# Altium integrated library Free Documents.IntLib: 2 symbols
Pins are listed as number, name and electrical type; pins without a type are passive.

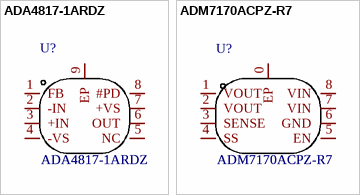
[diagram p0: symbols ADA4817-1ARDZ to ADM7170ACPZ-R7]

## ADA4817-1ARDZ
designator U?
运放类型:Voltage Feedback;放大器组数:1;增益带宽积（GBP）:410MHz;压摆率（SR）:870 V/us;电源电压:5V ~ 10V, ±2.5V ~ 5V;各通道供电电流:-;; Manufacturer: ADI(亚德诺)/LINEAR; Add into BOM: yes; Number of Circuits: 1; Gain Bandwidth Product（GBP）: 410MHz; Symbol: ADA4817-1ARDZ; Device: ADA4817-1ARDZ; LCSC Part Name: ADA4817-1ARDZ; Supplier Part: C208248; Manufacturer Part: ADA4817-1ARDZ; Supplier Footprint: SOIC-8_EP_150mil; JLCPCB Part Class: Extended Part; Datasheet: https://atta.szlcsc.com/upload/public/pdf/source/20180424/C208248_B6C816B2B54D5C6B6DFEDEB97F35E3C5.pdf; Supplier: LCSC; Convert to PCB: yes; Amplifier Type: Voltage Feedback; Slew Rate（SR）: 870 V/us; Output Type: -; Supply Voltage（Single）: 5V ~ 10V, ±2.5V ~ 5V; Iq per channel (Typ): -; Operating Temperature: -40°C ~ 105°C; Name: ADA4817-1ARDZ
footprint SOIC-8_L4.9-W3.9-P1.27-LS6.0-BL-EP2.3
3D model SOIC-8_L4.9-W3.9-H1.7-LS6.0-P1.27
pins: 1 FB, 2 -IN, 3 +IN, 4 -VS, 5 NC, 6 OUT, 7 +VS, 8 #PD, 9 EP

## ADM7170ACPZ-R7
designator U?
Manufacturer: ADI(亚德诺)/LINEAR(凌特); Add into BOM: yes; Symbol: ADM7170ACPZ-R7; Device: ADM7170ACPZ-R7; LCSC Part Name: ADM7170ACPZ-R7; Supplier Part: C658475; Manufacturer Part: ADM7170ACPZ-R7; Supplier Footprint: LFCSP-8; JLCPCB Part Class: Extended Part; Datasheet: https://atta.szlcsc.comnull; Supplier: LCSC; Convert to PCB: yes; Name: ADM7170ACPZ-R7
footprint LFCSP-8_L3.0-W3.0-P0.50-BL-EP
3D model LFCSP-8_L3.0-W3.0-H0.8-P0.50
pins: 0 EP, 1 VOUT, 2 VOUT, 3 SENSE, 4 SS, 5 EN, 6 GND, 7 VIN, 8 VIN